# Altium schematic symbol library kmilo17pet-TI_BattMgmt.SchLib: 950 symbols (part 50 of 60)
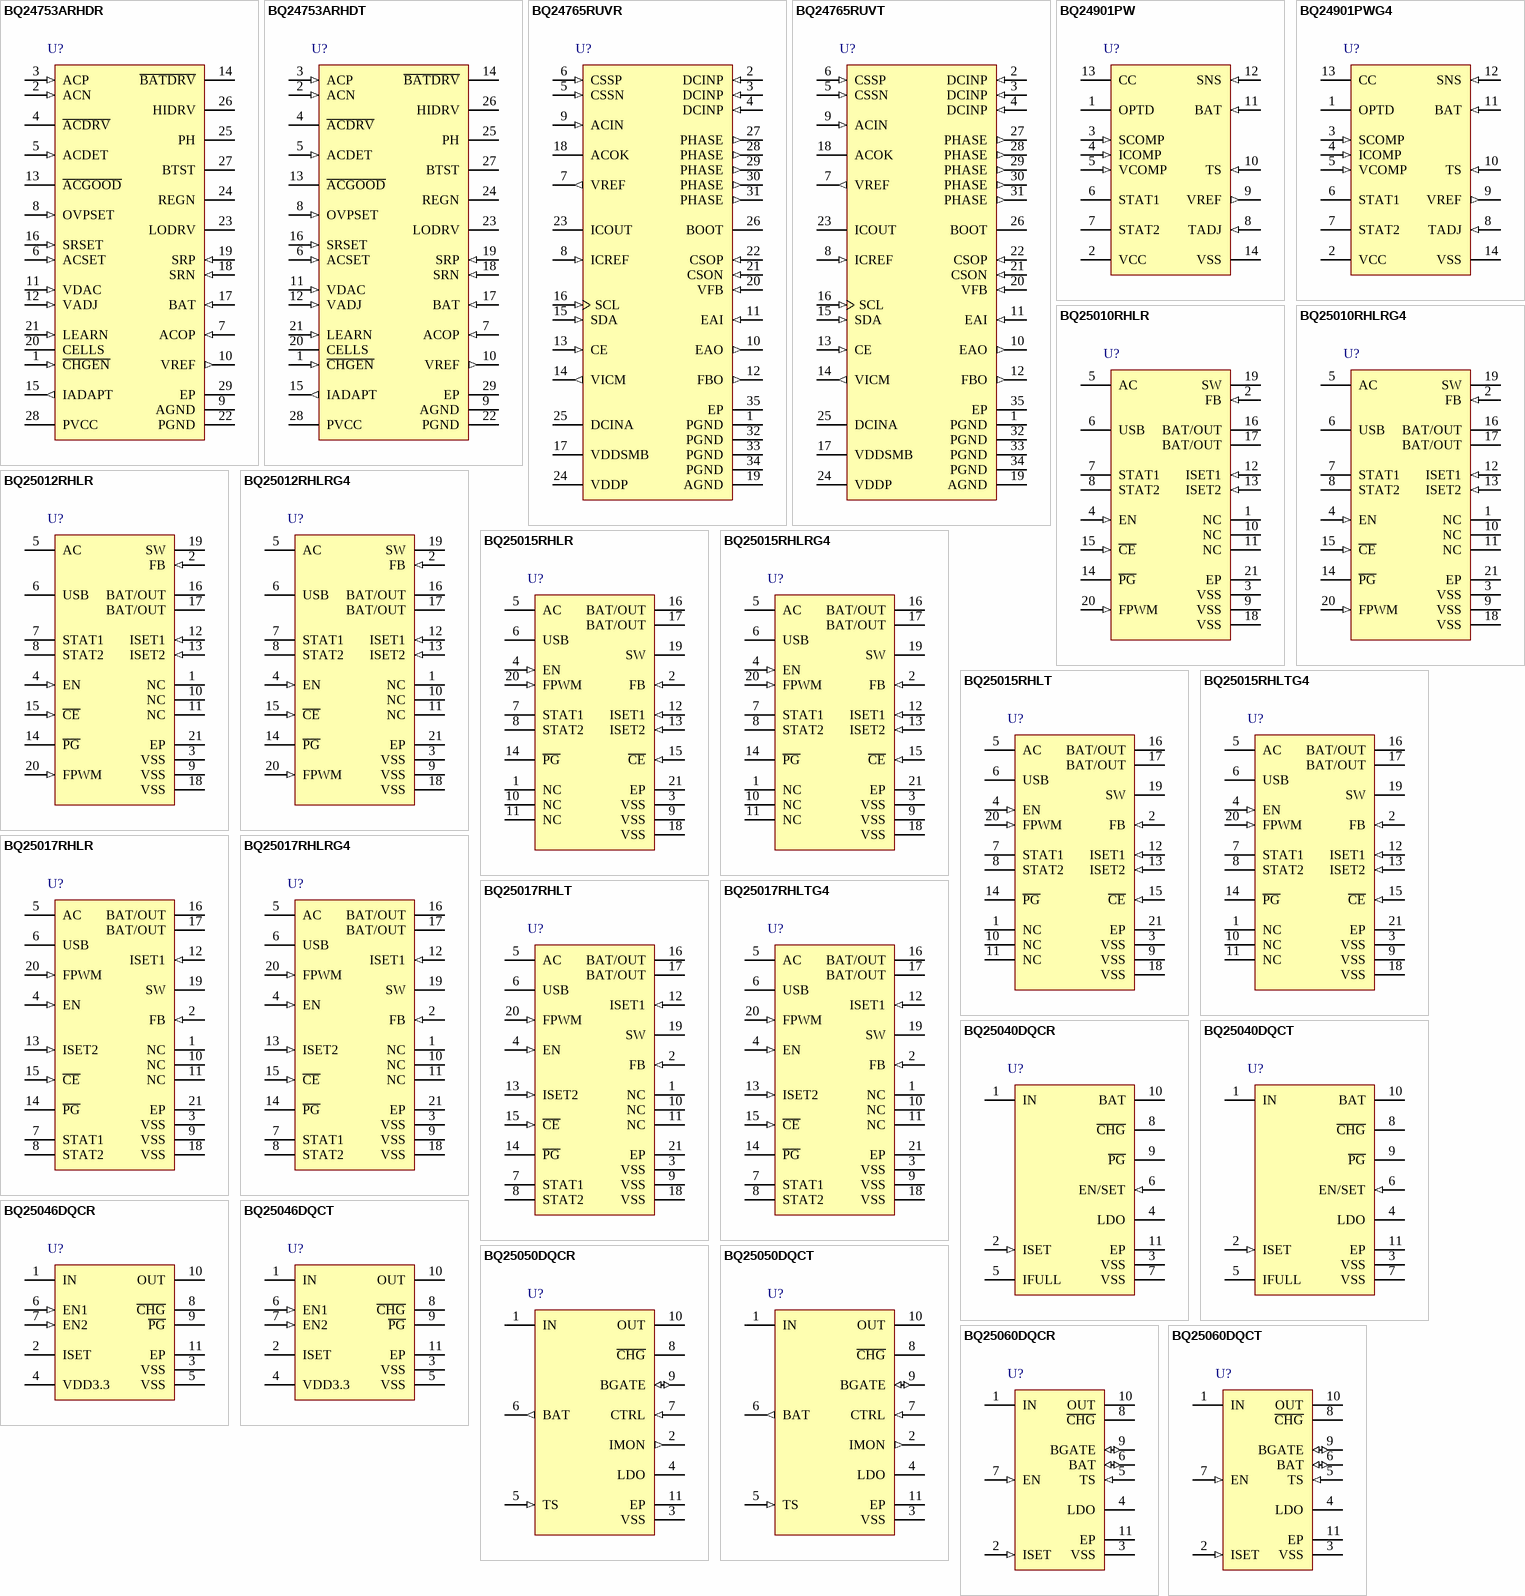
[diagram p83: symbols BQ24753ARHDR to BQ25060DQCT]

## BQ25015RHLT
designator U?
Dual Input Charger with Integrated Synchronous Buck Converter, Output Adjustable, 4.5 V, -40 to 125 degC, 20-pin QFN (RHL), Green (RoHS & no Sb/Br); PartNumber: BQ25015RHLT; Manufacturer: Texas Instruments; Lead Acid: N; Li-Ion: Y; SubFamily: Battery Charge Management; Vin(Min)(V): 4.5; DatasheetVersion: SLUS721A; PackageVersion: revJ, Dec-2011; PackageReference: RHL20-3050X2050TP; PackageDescription: 20-Leads Plastic Quad Flatpack No-Lead, 4.5 x 3.5 x 0.9 mm Body, 0.5 mm Pitch, Exposed Pad; Supplier 1: Digi-Key; Supplier Part Number 1: 296-32034-2-ND; Supplier Part Number 3: 296-32034-6-ND; Eco-Plan: Green (RoHS & no Sb/Br); Li-Polymer: Y; NiCd: N; NiMH: N; Over Voltage Protection: N; Mounting Technology: Surface Mount; ComponentLink1Description: Datasheet; ComponentLink1URL: http://www.ti.com/general/docs/lit/getliterature.tsp?genericPartNumber=BQ25015&fileType=pdf
footprint RHL20-3050X2050TP (QFN, 20-Leads, Body 4.5x3.5mm, Pitch 0.5mm, Thermal Pad 3.05x2.05mm, TI Recommended)
pins: 1 NC "No connect. These pins must be left floating.", 2 FB (in) "Feedback pin for DC-DC converter;connect to voltage divider for bq25015", 3 VSS (power) "Ground Input. Also note that there is an internal electrical connection between the exposed thermal pad and VSS pins of the device. The exposed thermal pad must be connected to the same potential as the Vss pin on the (See Datasheet)", 4 EN (in) "Enable input for DC-DC converter; EN=HIGH for device enable", 5 AC (power) "Charge input voltage from AC adapter, connect 10 uF capacitor to ground", 6 USB (power) "Charge input voltage from USB adapter; connect to 10 uF capacitor to ground", 7 STAT1 (oc) "Charge status output 1 (open-drain)", 8 STAT2 (oc) "Charge status output 2 (open-drain)", 9 VSS (power) "Ground Input. Also note that there is an internal electrical connection between the exposed thermal pad and VSS pins of the device. The exposed thermal pad must be connected to the same potential as the Vss pin on the (See Datasheet)", 10 NC "No connect. These pins must be left floating.", 11 NC "No connect. These pins must be left floating.", 12 ISET1 (in) "Charge current set point for AC input and precharge and taper set point for both AC and USB", 13 ISET2 (in) "Charge current set point for USB port (High = 500 mA, Low = 100 mA, High-Z = disable USB charge)", 14 ~{PG} (oc) "Power good status output (active low, open-drain)", 15 ~{CE} (in) "Charge enable input (active low)", 16 BAT/OUT (power) "Charge current output", 17 BAT/OUT (power) "Battery input to DC-DC converter", 18 VSS (power) "Ground Input. Also note that there is an internal electrical connection between the exposed thermal pad and VSS pins of the device. The exposed thermal pad must be connected to the same potential as the Vss pin on the (See Datasheet)", 19 SW (power) "Phase node of the DC/DC converter; connect series inductor and capacitor to ground", 20 FPWM (in) "PWM control input for the DC-DC converter. A high on FPWM = forced PWM mode. A low = power save mode.", 21 EP (power) "exposed pad"

## BQ25015RHLTG4
designator U?
Dual Input Charger with Integrated Synchronous Buck Converter, Output Adjustable, 4.5 V, -40 to 125 degC, 20-pin QFN (RHL), Green (RoHS & no Sb/Br); PartNumber: BQ25015RHLTG4; Manufacturer: Texas Instruments; Lead Acid: N; Li-Ion: Y; SubFamily: Battery Charge Management; Vin(Min)(V): 4.5; DatasheetVersion: SLUS721A; PackageVersion: revJ, Dec-2011; PackageReference: RHL20-3050X2050TP; PackageDescription: 20-Leads Plastic Quad Flatpack No-Lead, 4.5 x 3.5 x 0.9 mm Body, 0.5 mm Pitch, Exposed Pad; Supplier 1: Digi-Key; Supplier Part Number 1: BQ25015RHLTG4-ND; Supplier Part Number 3: 595-BQ25015RHLTG4; Eco-Plan: Green (RoHS & no Sb/Br); Li-Polymer: Y; NiCd: N; NiMH: N; Over Voltage Protection: N; Mounting Technology: Surface Mount; ComponentLink1Description: Datasheet; ComponentLink1URL: http://www.ti.com/general/docs/lit/getliterature.tsp?genericPartNumber=BQ25015&fileType=pdf
footprint RHL20-3050X2050TP (QFN, 20-Leads, Body 4.5x3.5mm, Pitch 0.5mm, Thermal Pad 3.05x2.05mm, TI Recommended)
pins: 1 NC "No connect. These pins must be left floating.", 2 FB (in) "Feedback pin for DC-DC converter;connect to voltage divider for bq25015", 3 VSS (power) "Ground Input. Also note that there is an internal electrical connection between the exposed thermal pad and VSS pins of the device. The exposed thermal pad must be connected to the same potential as the Vss pin on the (See Datasheet)", 4 EN (in) "Enable input for DC-DC converter; EN=HIGH for device enable", 5 AC (power) "Charge input voltage from AC adapter, connect 10 uF capacitor to ground", 6 USB (power) "Charge input voltage from USB adapter; connect to 10 uF capacitor to ground", 7 STAT1 (oc) "Charge status output 1 (open-drain)", 8 STAT2 (oc) "Charge status output 2 (open-drain)", 9 VSS (power) "Ground Input. Also note that there is an internal electrical connection between the exposed thermal pad and VSS pins of the device. The exposed thermal pad must be connected to the same potential as the Vss pin on the (See Datasheet)", 10 NC "No connect. These pins must be left floating.", 11 NC "No connect. These pins must be left floating.", 12 ISET1 (in) "Charge current set point for AC input and precharge and taper set point for both AC and USB", 13 ISET2 (in) "Charge current set point for USB port (High = 500 mA, Low = 100 mA, High-Z = disable USB charge)", 14 ~{PG} (oc) "Power good status output (active low, open-drain)", 15 ~{CE} (in) "Charge enable input (active low)", 16 BAT/OUT (power) "Charge current output", 17 BAT/OUT (power) "Battery input to DC-DC converter", 18 VSS (power) "Ground Input. Also note that there is an internal electrical connection between the exposed thermal pad and VSS pins of the device. The exposed thermal pad must be connected to the same potential as the Vss pin on the (See Datasheet)", 19 SW (power) "Phase node of the DC/DC converter; connect series inductor and capacitor to ground", 20 FPWM (in) "PWM control input for the DC-DC converter. A high on FPWM = forced PWM mode. A low = power save mode.", 21 EP (power) "exposed pad"

## BQ25017RHLR
designator U?
Dual Input Charger with Integrated Synchronous Buck Converter, Fixed Output 1.8 V, 4.5 V, -40 to 125 degC, 20-pin QFN (RHL), Green (RoHS & no Sb/Br); PartNumber: BQ25017RHLR; Manufacturer: Texas Instruments; Lead Acid: N; Li-Ion: Y; SubFamily: Battery Charge Management; Vin(Min)(V): 4.5; DatasheetVersion: SLUS721A; PackageVersion: revJ, Dec-2011; PackageReference: RHL20-3050X2050TP; PackageDescription: 20-Leads Plastic Quad Flatpack No-Lead, 4.5 x 3.5 x 0.9 mm Body, 0.5 mm Pitch, Exposed Pad; Supplier 1: Digi-Key; Supplier Part Number 1: 296-21697-2-ND; Supplier Part Number 3: 296-21697-6-ND; Eco-Plan: Green (RoHS & no Sb/Br); Li-Polymer: Y; NiCd: N; NiMH: N; Over Voltage Protection: N; Mounting Technology: Surface Mount; ComponentLink1Description: Datasheet; ComponentLink1URL: http://www.ti.com/general/docs/lit/getliterature.tsp?genericPartNumber=BQ25017&fileType=pdf
footprint RHL20-3050X2050TP (QFN, 20-Leads, Body 4.5x3.5mm, Pitch 0.5mm, Thermal Pad 3.05x2.05mm, TI Recommended)
pins: 1 NC "No connect. These pins must be left floating.", 2 FB (in) "Feedback pin for DC-DC converter;connect to system OUT voltage for bq25017", 3 VSS (power) "Ground Input. Also note that there is an internal electrical connection between the exposed thermal pad and VSS pins of the device. The exposed thermal pad must be connected to the same potential as the Vss pin on the (See Datasheet)", 4 EN (in) "Enable input for DC-DC converter; EN=HIGH for device enable", 5 AC (power) "Charge input voltage from AC adapter, connect 10 uF capacitor to ground", 6 USB (power) "Charge input voltage from USB adapter; connect to 10 uF capacitor to ground", 7 STAT1 (oc) "Charge status output 1 (open-drain)", 8 STAT2 (oc) "Charge status output 2 (open-drain)", 9 VSS (power) "Ground Input. Also note that there is an internal electrical connection between the exposed thermal pad and VSS pins of the device. The exposed thermal pad must be connected to the same potential as the Vss pin on the (See Datasheet)", 10 NC "No connect. These pins must be left floating.", 11 NC "No connect. These pins must be left floating.", 12 ISET1 (in) "Charge current set point for AC input and precharge and taper set point for both AC and USB", 13 ISET2 (in) "Charge current set point for USB port (High = 500 mA, Low = 100 mA, High-Z = disable USB charge)", 14 ~{PG} (oc) "Power good status output (active low, open-drain)", 15 ~{CE} (in) "Charge enable input (active low)", 16 BAT/OUT (power) "Charge current output", 17 BAT/OUT (power) "Battery input to DC-DC converter", 18 VSS (power) "Ground Input. Also note that there is an internal electrical connection between the exposed thermal pad and VSS pins of the device. The exposed thermal pad must be connected to the same potential as the Vss pin on the (See Datasheet)", 19 SW (power) "Phase node of the DC/DC converter; connect series inductor and capacitor to ground", 20 FPWM (in) "PWM control input for the DC-DC converter. A high on FPWM = forced PWM mode. A low = power save mode.", 21 EP (power) "exposed pad"

## BQ25017RHLRG4
designator U?
Dual Input Charger with Integrated Synchronous Buck Converter, Fixed Output 1.8 V, 4.5 V, -40 to 125 degC, 20-pin QFN (RHL), Green (RoHS & no Sb/Br); PartNumber: BQ25017RHLRG4; Manufacturer: Texas Instruments; Lead Acid: N; Li-Ion: Y; SubFamily: Battery Charge Management; Vin(Min)(V): 4.5; DatasheetVersion: SLUS721A; PackageVersion: revJ, Dec-2011; PackageReference: RHL20-3050X2050TP; PackageDescription: 20-Leads Plastic Quad Flatpack No-Lead, 4.5 x 3.5 x 0.9 mm Body, 0.5 mm Pitch, Exposed Pad; Supplier 1: Digi-Key; Supplier Part Number 1: BQ25017RHLRG4-ND; Supplier Part Number 3: 595-BQ25017RHLRG4; Eco-Plan: Green (RoHS & no Sb/Br); Li-Polymer: Y; NiCd: N; NiMH: N; Over Voltage Protection: N; Mounting Technology: Surface Mount; ComponentLink1Description: Datasheet; ComponentLink1URL: http://www.ti.com/general/docs/lit/getliterature.tsp?genericPartNumber=BQ25017&fileType=pdf
footprint RHL20-3050X2050TP (QFN, 20-Leads, Body 4.5x3.5mm, Pitch 0.5mm, Thermal Pad 3.05x2.05mm, TI Recommended)
pins: 1 NC "No connect. These pins must be left floating.", 2 FB (in) "Feedback pin for DC-DC converter;connect to system OUT voltage for bq25017", 3 VSS (power) "Ground Input. Also note that there is an internal electrical connection between the exposed thermal pad and VSS pins of the device. The exposed thermal pad must be connected to the same potential as the Vss pin on the (See Datasheet)", 4 EN (in) "Enable input for DC-DC converter; EN=HIGH for device enable", 5 AC (power) "Charge input voltage from AC adapter, connect 10 uF capacitor to ground", 6 USB (power) "Charge input voltage from USB adapter; connect to 10 uF capacitor to ground", 7 STAT1 (oc) "Charge status output 1 (open-drain)", 8 STAT2 (oc) "Charge status output 2 (open-drain)", 9 VSS (power) "Ground Input. Also note that there is an internal electrical connection between the exposed thermal pad and VSS pins of the device. The exposed thermal pad must be connected to the same potential as the Vss pin on the (See Datasheet)", 10 NC "No connect. These pins must be left floating.", 11 NC "No connect. These pins must be left floating.", 12 ISET1 (in) "Charge current set point for AC input and precharge and taper set point for both AC and USB", 13 ISET2 (in) "Charge current set point for USB port (High = 500 mA, Low = 100 mA, High-Z = disable USB charge)", 14 ~{PG} (oc) "Power good status output (active low, open-drain)", 15 ~{CE} (in) "Charge enable input (active low)", 16 BAT/OUT (power) "Charge current output", 17 BAT/OUT (power) "Battery input to DC-DC converter", 18 VSS (power) "Ground Input. Also note that there is an internal electrical connection between the exposed thermal pad and VSS pins of the device. The exposed thermal pad must be connected to the same potential as the Vss pin on the (See Datasheet)", 19 SW (power) "Phase node of the DC/DC converter; connect series inductor and capacitor to ground", 20 FPWM (in) "PWM control input for the DC-DC converter. A high on FPWM = forced PWM mode. A low = power save mode.", 21 EP (power) "exposed pad"

## BQ25017RHLT
designator U?
Dual Input Charger with Integrated Synchronous Buck Converter, Fixed Output 1.8 V, 4.5 V, -40 to 125 degC, 20-pin QFN (RHL), Green (RoHS & no Sb/Br); PartNumber: BQ25017RHLT; Manufacturer: Texas Instruments; Lead Acid: N; Li-Ion: Y; SubFamily: Battery Charge Management; Vin(Min)(V): 4.5; DatasheetVersion: SLUS721A; PackageVersion: revJ, Dec-2011; PackageReference: RHL20-3050X2050TP; PackageDescription: 20-Leads Plastic Quad Flatpack No-Lead, 4.5 x 3.5 x 0.9 mm Body, 0.5 mm Pitch, Exposed Pad; Supplier 1: Digi-Key; Supplier Part Number 1: BQ25017RHLT-ND; Eco-Plan: Green (RoHS & no Sb/Br); Li-Polymer: Y; NiCd: N; NiMH: N; Over Voltage Protection: N; Mounting Technology: Surface Mount; ComponentLink1Description: Datasheet; ComponentLink1URL: http://www.ti.com/general/docs/lit/getliterature.tsp?genericPartNumber=BQ25017&fileType=pdf
footprint RHL20-3050X2050TP (QFN, 20-Leads, Body 4.5x3.5mm, Pitch 0.5mm, Thermal Pad 3.05x2.05mm, TI Recommended)
pins: 1 NC "No connect. These pins must be left floating.", 2 FB (in) "Feedback pin for DC-DC converter;connect to system OUT voltage for bq25017", 3 VSS (power) "Ground Input. Also note that there is an internal electrical connection between the exposed thermal pad and VSS pins of the device. The exposed thermal pad must be connected to the same potential as the Vss pin on the (See Datasheet)", 4 EN (in) "Enable input for DC-DC converter; EN=HIGH for device enable", 5 AC (power) "Charge input voltage from AC adapter, connect 10 uF capacitor to ground", 6 USB (power) "Charge input voltage from USB adapter; connect to 10 uF capacitor to ground", 7 STAT1 (oc) "Charge status output 1 (open-drain)", 8 STAT2 (oc) "Charge status output 2 (open-drain)", 9 VSS (power) "Ground Input. Also note that there is an internal electrical connection between the exposed thermal pad and VSS pins of the device. The exposed thermal pad must be connected to the same potential as the Vss pin on the (See Datasheet)", 10 NC "No connect. These pins must be left floating.", 11 NC "No connect. These pins must be left floating.", 12 ISET1 (in) "Charge current set point for AC input and precharge and taper set point for both AC and USB", 13 ISET2 (in) "Charge current set point for USB port (High = 500 mA, Low = 100 mA, High-Z = disable USB charge)", 14 ~{PG} (oc) "Power good status output (active low, open-drain)", 15 ~{CE} (in) "Charge enable input (active low)", 16 BAT/OUT (power) "Charge current output", 17 BAT/OUT (power) "Battery input to DC-DC converter", 18 VSS (power) "Ground Input. Also note that there is an internal electrical connection between the exposed thermal pad and VSS pins of the device. The exposed thermal pad must be connected to the same potential as the Vss pin on the (See Datasheet)", 19 SW (power) "Phase node of the DC/DC converter; connect series inductor and capacitor to ground", 20 FPWM (in) "PWM control input for the DC-DC converter. A high on FPWM = forced PWM mode. A low = power save mode.", 21 EP (power) "exposed pad"

## BQ25017RHLTG4
designator U?
Dual Input Charger with Integrated Synchronous Buck Converter, Fixed Output 1.8 V, 4.5 V, -40 to 125 degC, 20-pin QFN (RHL), Green (RoHS & no Sb/Br); PartNumber: BQ25017RHLTG4; Manufacturer: Texas Instruments; Lead Acid: N; Li-Ion: Y; SubFamily: Battery Charge Management; Vin(Min)(V): 4.5; DatasheetVersion: SLUS721A; PackageVersion: revJ, Dec-2011; PackageReference: RHL20-3050X2050TP; PackageDescription: 20-Leads Plastic Quad Flatpack No-Lead, 4.5 x 3.5 x 0.9 mm Body, 0.5 mm Pitch, Exposed Pad; Supplier 1: Digi-Key; Supplier Part Number 1: BQ25017RHLTG4-ND; Supplier Part Number 3: 595-BQ25017RHLTG4; Eco-Plan: Green (RoHS & no Sb/Br); Li-Polymer: Y; NiCd: N; NiMH: N; Over Voltage Protection: N; Mounting Technology: Surface Mount; ComponentLink1Description: Datasheet; ComponentLink1URL: http://www.ti.com/general/docs/lit/getliterature.tsp?genericPartNumber=BQ25017&fileType=pdf
footprint RHL20-3050X2050TP (QFN, 20-Leads, Body 4.5x3.5mm, Pitch 0.5mm, Thermal Pad 3.05x2.05mm, TI Recommended)
pins: 1 NC "No connect. These pins must be left floating.", 2 FB (in) "Feedback pin for DC-DC converter;connect to system OUT voltage for bq25017", 3 VSS (power) "Ground Input. Also note that there is an internal electrical connection between the exposed thermal pad and VSS pins of the device. The exposed thermal pad must be connected to the same potential as the Vss pin on the (See Datasheet)", 4 EN (in) "Enable input for DC-DC converter; EN=HIGH for device enable", 5 AC (power) "Charge input voltage from AC adapter, connect 10 uF capacitor to ground", 6 USB (power) "Charge input voltage from USB adapter; connect to 10 uF capacitor to ground", 7 STAT1 (oc) "Charge status output 1 (open-drain)", 8 STAT2 (oc) "Charge status output 2 (open-drain)", 9 VSS (power) "Ground Input. Also note that there is an internal electrical connection between the exposed thermal pad and VSS pins of the device. The exposed thermal pad must be connected to the same potential as the Vss pin on the (See Datasheet)", 10 NC "No connect. These pins must be left floating.", 11 NC "No connect. These pins must be left floating.", 12 ISET1 (in) "Charge current set point for AC input and precharge and taper set point for both AC and USB", 13 ISET2 (in) "Charge current set point for USB port (High = 500 mA, Low = 100 mA, High-Z = disable USB charge)", 14 ~{PG} (oc) "Power good status output (active low, open-drain)", 15 ~{CE} (in) "Charge enable input (active low)", 16 BAT/OUT (power) "Charge current output", 17 BAT/OUT (power) "Battery input to DC-DC converter", 18 VSS (power) "Ground Input. Also note that there is an internal electrical connection between the exposed thermal pad and VSS pins of the device. The exposed thermal pad must be connected to the same potential as the Vss pin on the (See Datasheet)", 19 SW (power) "Phase node of the DC/DC converter; connect series inductor and capacitor to ground", 20 FPWM (in) "PWM control input for the DC-DC converter. A high on FPWM = forced PWM mode. A low = power save mode.", 21 EP (power) "exposed pad"

## BQ25040DQCR
designator U?
1.1 A, Single-Input, Single Cell Li-Ion Battery Charger with 50 mA LDO in 2x3 QFN, 4.5 V, -40 to 125 degC, 10-pin WSON (DQC), Green (RoHS & no Sb/Br); PartNumber: BQ25040DQCR; Manufacturer: Texas Instruments; Lead Acid: N; Li-Ion: Y; SubFamily: Battery Charge Management; Vin(Min)(V): 4.5; DatasheetVersion: SLUS910B; PackageVersion: revA, Jul-2008; PackageReference: DQC10-2400X840TP; PackageDescription: 10-Pin Plastic Small Outline No-Lead, 2 x 3 x 0.8 mm Body, 0.5 mm Pitch, Exposed Pad; Supplier 1: Digi-Key; Supplier Part Number 1: 296-24279-2-ND; Supplier Part Number 3: 296-24279-6-ND; Eco-Plan: Green (RoHS & no Sb/Br); Li-Polymer: N; NiCd: N; NiMH: N; Over Voltage Protection: N; Mounting Technology: Surface Mount; ComponentLink1Description: Datasheet; ComponentLink1URL: http://www.ti.com/general/docs/lit/getliterature.tsp?genericPartNumber=BQ25040&fileType=pdf
footprint DQC10-2400X840TP (SON, 10-Leads, Body 2x3mm, Pitch 0.5mm, Thermal Pad 2.4x0.84mm)
pins: 1 IN (power) "Input power supply. IN is connected to the external dc supply (ac adapter or USB port). Bypass IN to VSS with at least a 1uF ceramic capacitor.", 2 ISET (in) "Current programming input. Connect a resistor from ISET to VSS to program the fast-charge current when the user programmable mode is selected by EN/SET. If the current limit set by ISET is lower than the USB500 limit, the (See Datasheet)", 3 VSS (power) "Ground terminal. Connect to the thermal pad and the ground plane of the circuit.", 4 LDO (power) "LDO output. LDO is regulated to 4.9V and drives up to 50mA. Bypass LDO to VSS with at least a 1uF ceramic capacitor. LDO is enabled when VIN is above the UVLO and less than VOVP. The LDO current is not limited by the input (See Datasheet)", 5 IFULL "Charge done current programming input. Connect a resistor from IFULL to VSS to program the charge done threshold. The C\H\G\ output goes high-impedance when IBAT falls to the charge done threshold. The  charge done threshold (See Datasheet)", 6 EN/SET (in) "One-wire Interface Input. Drive EN/SET with pulses to enable/disable the device and select different modes. See Table 1 for the data map. EN/SET is pulled to VSS with an internal ~260 k ohm  resistor.", 7 VSS (power) "Ground terminal. Connect to the thermal pad and the ground plane of the circuit.", 8 ~{CHG} (hiz) "Charge done indicator open-drain output. C\H\G\ is pulled low while the device is charging the battery. C\H\G\  goes high impedance when the battery is fully charged and does not indicate subsequent recharge cycles. C\H\G\ (See Datasheet)", 9 ~{PG} (hiz) "Power good open-drain output. P\G\ is an open-drain output that pulls to VSS when the input power is  above the battery voltage by 80mV and below the OVP threshold. P\G\ is high impedance when outside this range.", 10 BAT (power) "Battery connection output. Connect the battery and the system input to BAT. Bypass BAT to VSS with at least a 1uF ceramic capacitor. If no battery is installed, the capacitance on the BAT line must be at least 40uF. In (See Datasheet)", 11 EP (power) "There is an internal electrical connection between the exposed thermal pad and the VSS pin of the  device. The thermal pad must be connected to the same potential as the VSS pin on the printed circuit board. Do not use the (See Datasheet)"

## BQ25040DQCT
designator U?
1.1 A, Single-Input, Single Cell Li-Ion Battery Charger with 50 mA LDO in 2x3 QFN, 4.5 V, -40 to 125 degC, 10-pin WSON (DQC), Green (RoHS & no Sb/Br); PartNumber: BQ25040DQCT; Manufacturer: Texas Instruments; Lead Acid: N; Li-Ion: Y; SubFamily: Battery Charge Management; Vin(Min)(V): 4.5; DatasheetVersion: SLUS910B; PackageVersion: revA, Jul-2008; PackageReference: DQC10-2400X840TP; PackageDescription: 10-Pin Plastic Small Outline No-Lead, 2 x 3 x 0.8 mm Body, 0.5 mm Pitch, Exposed Pad; Supplier 1: Digi-Key; Supplier Part Number 1: 296-32035-2-ND; Supplier Part Number 3: 296-32035-6-ND; Eco-Plan: Green (RoHS & no Sb/Br); Li-Polymer: N; NiCd: N; NiMH: N; Over Voltage Protection: N; Mounting Technology: Surface Mount; ComponentLink1Description: Datasheet; ComponentLink1URL: http://www.ti.com/general/docs/lit/getliterature.tsp?genericPartNumber=BQ25040&fileType=pdf
footprint DQC10-2400X840TP (SON, 10-Leads, Body 2x3mm, Pitch 0.5mm, Thermal Pad 2.4x0.84mm)
pins: 1 IN (power) "Input power supply. IN is connected to the external dc supply (ac adapter or USB port). Bypass IN to VSS with at least a 1uF ceramic capacitor.", 2 ISET (in) "Current programming input. Connect a resistor from ISET to VSS to program the fast-charge current when the user programmable mode is selected by EN/SET. If the current limit set by ISET is lower than the USB500 limit, the (See Datasheet)", 3 VSS (power) "Ground terminal. Connect to the thermal pad and the ground plane of the circuit.", 4 LDO (power) "LDO output. LDO is regulated to 4.9V and drives up to 50mA. Bypass LDO to VSS with at least a 1uF ceramic capacitor. LDO is enabled when VIN is above the UVLO and less than VOVP. The LDO current is not limited by the input (See Datasheet)", 5 IFULL "Charge done current programming input. Connect a resistor from IFULL to VSS to program the charge done threshold. The C\H\G\ output goes high-impedance when IBAT falls to the charge done threshold. The  charge done threshold (See Datasheet)", 6 EN/SET (in) "One-wire Interface Input. Drive EN/SET with pulses to enable/disable the device and select different modes. See Table 1 for the data map. EN/SET is pulled to VSS with an internal ~260 k ohm  resistor.", 7 VSS (power) "Ground terminal. Connect to the thermal pad and the ground plane of the circuit.", 8 ~{CHG} (hiz) "Charge done indicator open-drain output. C\H\G\ is pulled low while the device is charging the battery. C\H\G\  goes high impedance when the battery is fully charged and does not indicate subsequent recharge cycles. C\H\G\ (See Datasheet)", 9 ~{PG} (hiz) "Power good open-drain output. P\G\ is an open-drain output that pulls to VSS when the input power is  above the battery voltage by 80mV and below the OVP threshold. P\G\ is high impedance when outside this range.", 10 BAT (power) "Battery connection output. Connect the battery and the system input to BAT. Bypass BAT to VSS with at least a 1uF ceramic capacitor. If no battery is installed, the capacitance on the BAT line must be at least 40uF. In (See Datasheet)", 11 EP (power) "There is an internal electrical connection between the exposed thermal pad and the VSS pin of the  device. The thermal pad must be connected to the same potential as the VSS pin on the printed circuit board. Do not use the (See Datasheet)"

## BQ25046DQCR
designator U?
Generation 1 1.1 A, Single-Input 5 V Power Supply IC for Contactless Charging Applications, -40 to 85 degC, 10-pin WSON (DQC), Green (RoHS & no Sb/Br); PartNumber: BQ25046DQCR; Manufacturer: Texas Instruments; Lead Acid: N; SubFamily: Battery Charge Management; DatasheetVersion: SLUSA83; PackageVersion: revA, Jul-2008; PackageReference: DQC10-2400X840TP; PackageDescription: 10-Pin Plastic Small Outline No-Lead, 2 x 3 x 0.8 mm Body, 0.5 mm Pitch, Exposed Pad; Supplier 1: Digi-Key; Supplier Part Number 1: BQ25046DQCR-ND; Supplier Part Number 3: 595-BQ25046DQCR; Eco-Plan: Green (RoHS & no Sb/Br); Li-Ion: N; Li-Polymer: N; NiCd: N; NiMH: N; Over Voltage Protection: N; Mounting Technology: Surface Mount; ComponentLink1Description: Datasheet; ComponentLink1URL: http://www.ti.com/general/docs/lit/getliterature.tsp?genericPartNumber=BQ25046&fileType=pdf
footprint DQC10-2400X840TP (SON, 10-Leads, Body 2x3mm, Pitch 0.5mm, Thermal Pad 2.4x0.84mm)
pins: 1 IN (power) "Input power supply. IN is connected to the external DC supply (AC adapter or USB port) or wireless rectifier. Bypass IN to VSS with at least a 1uF ceramic capacitor for wired applications and 10 uF typical for wireless power (See Datasheet)", 2 ISET "Current programming input. Connect a resistor from ISET to VSS to program the current limit when the user programmable mode is selected by EN1 and EN2. The resistor range is between 470ohm and 5360ohm to set the current (See Datasheet)", 3 VSS (power) "Ground terminal. Connect to the thermal pad and the ground plane of the circuit.", 4 VDD3.3 (power) "3.3V output. VDD3.3 is regulated to 3.3V and drives up to 15mA. Bypass VDD3.3 to VSS with at least a 0.1uF ceramic capacitor. VDD3.3 is enabled when VIN is above the UVLO voltage.", 5 VSS (power) "Ground terminal. Connect to the thermal pad and the ground plane of the circuit.", 6 EN1 (in) "Current Limit Selection inputs. EN1 and EN2 are used to select the current limit and enable/disable the device. See Table 1 for current limit settings.", 7 EN2 (in) "Current Limit Selection inputs. EN1 and EN2 are used to select the current limit and enable/disable the device. See Table 1 for current limit settings.", 8 ~{CHG} (hiz) "IC Enabled output. C\H\G\ is pulled to VSS when the bq25046 is enabled. C\H\G\ is high impedance when the IC is disabled.", 9 ~{PG} (hiz) "Power good output. P\G\ is an open-drain output that pulls to VSS when the input power is above the UVLO and below the OVP threshold. P\G\ is high impedance when outside this range.", 10 OUT (power) "5V LDO output. Connect OUT to the system input. OUT regulates to 5.0V. Bypass OUT to VSS with at least a 1uF ceramic capacitor.", 11 EP (power) "There is an internal electrical connection between the exposed thermal pad and the VSS pin of the device. The thermal pad must be connected to the same potential as the VSS pin on the printed circuit board. Do not use the (See Datasheet)"

## BQ25046DQCT
designator U?
Generation 1 1.1 A, Single-Input 5 V Power Supply IC for Contactless Charging Applications, -40 to 85 degC, 10-pin WSON (DQC), Green (RoHS & no Sb/Br); PartNumber: BQ25046DQCT; Manufacturer: Texas Instruments; Lead Acid: N; SubFamily: Battery Charge Management; DatasheetVersion: SLUSA83; PackageVersion: revA, Jul-2008; PackageReference: DQC10-2400X840TP; PackageDescription: 10-Pin Plastic Small Outline No-Lead, 2 x 3 x 0.8 mm Body, 0.5 mm Pitch, Exposed Pad; Supplier 1: Digi-Key; Supplier Part Number 1: 296-28069-2-ND; Supplier Part Number 3: 296-28069-6-ND; Eco-Plan: Green (RoHS & no Sb/Br); Li-Ion: N; Li-Polymer: N; NiCd: N; NiMH: N; Over Voltage Protection: N; Mounting Technology: Surface Mount; ComponentLink1Description: Datasheet; ComponentLink1URL: http://www.ti.com/general/docs/lit/getliterature.tsp?genericPartNumber=BQ25046&fileType=pdf
footprint DQC10-2400X840TP (SON, 10-Leads, Body 2x3mm, Pitch 0.5mm, Thermal Pad 2.4x0.84mm)
pins: 1 IN (power) "Input power supply. IN is connected to the external DC supply (AC adapter or USB port) or wireless rectifier. Bypass IN to VSS with at least a 1uF ceramic capacitor for wired applications and 10 uF typical for wireless power (See Datasheet)", 2 ISET "Current programming input. Connect a resistor from ISET to VSS to program the current limit when the user programmable mode is selected by EN1 and EN2. The resistor range is between 470ohm and 5360ohm to set the current (See Datasheet)", 3 VSS (power) "Ground terminal. Connect to the thermal pad and the ground plane of the circuit.", 4 VDD3.3 (power) "3.3V output. VDD3.3 is regulated to 3.3V and drives up to 15mA. Bypass VDD3.3 to VSS with at least a 0.1uF ceramic capacitor. VDD3.3 is enabled when VIN is above the UVLO voltage.", 5 VSS (power) "Ground terminal. Connect to the thermal pad and the ground plane of the circuit.", 6 EN1 (in) "Current Limit Selection inputs. EN1 and EN2 are used to select the current limit and enable/disable the device. See Table 1 for current limit settings.", 7 EN2 (in) "Current Limit Selection inputs. EN1 and EN2 are used to select the current limit and enable/disable the device. See Table 1 for current limit settings.", 8 ~{CHG} (hiz) "IC Enabled output. C\H\G\ is pulled to VSS when the bq25046 is enabled. C\H\G\ is high impedance when the IC is disabled.", 9 ~{PG} (hiz) "Power good output. P\G\ is an open-drain output that pulls to VSS when the input power is above the UVLO and below the OVP threshold. P\G\ is high impedance when outside this range.", 10 OUT (power) "5V LDO output. Connect OUT to the system input. OUT regulates to 5.0V. Bypass OUT to VSS with at least a 1uF ceramic capacitor.", 11 EP (power) "There is an internal electrical connection between the exposed thermal pad and the VSS pin of the device. The thermal pad must be connected to the same potential as the VSS pin on the printed circuit board. Do not use the (See Datasheet)"

## BQ25050DQCR
designator U?
1 A, Single-Input, Single Cell Li-Ion Battery Charger with 50 mA LDO, -40 to 85 degC, 10-pin WSON (DQC), Green (RoHS & no Sb/Br); PartNumber: BQ25050DQCR; Manufacturer: Texas Instruments; Lead Acid: N; SubFamily: Battery Charge Management; DatasheetVersion: SLUSA33; PackageVersion: revA, Jul-2008; PackageReference: DQC10-2400X840TP; PackageDescription: 10-Pin Plastic Small Outline No-Lead, 2 x 3 x 0.8 mm Body, 0.5 mm Pitch, Exposed Pad; Supplier 1: Digi-Key; Supplier Part Number 1: 296-29243-2-ND; Supplier Part Number 3: 296-29243-6-ND; Eco-Plan: Green (RoHS & no Sb/Br); Li-Ion: N; Li-Polymer: N; NiCd: N; NiMH: N; Over Voltage Protection: N; Mounting Technology: Surface Mount; ComponentLink1Description: Datasheet; ComponentLink1URL: http://www.ti.com/general/docs/lit/getliterature.tsp?genericPartNumber=BQ25050&fileType=pdf
footprint DQC10-2400X840TP (SON, 10-Leads, Body 2x3mm, Pitch 0.5mm, Thermal Pad 2.4x0.84mm)
pins: 1 IN (power) "Input power supply. IN is connected to the external DC supply (AC adapter or USB port). Bypass IN to VSS with at least a 0.1uF ceramic capacitor.", 2 IMON (out) "Current monitoring output. Connect a 1kO resistor from IMON to VSS to monitor the input current. The voltage at IMON ranges from 0V to 1V which corresponds to an input current from 0A to 1A.", 3 VSS (power) "Ground terminal. Connect to the thermal pad and the ground plane of the circuit.", 4 LDO (power) "LDO output. LDO is regulated to 4.9V and drives up to 50mA. Bypass LDO to VSS with a 0.1uF ceramic capacitor. LDO is enabled when VUVLO < VIN < VOVP.", 5 TS (in) "Battery pack NTC monitoring input. Connect the battery pack 47-kO NTC from TS to VSS to monitor battery pack temperature. The default pack temperature range is 0degreesC to 45degreesC thresholds.", 6 BAT (out) "Battery connection output. BAT is the sense input for the battery as well as the precharge current output. Connect BAT to the battery and bypass BAT to VSS with a 0.1uF ceramic capacitor.", 7 CTRL (in) "Single-input interface Input. Drive CTRL with pulses to enable/disable the device, enable/disable VIN-DPM, select battery temperature range and select current limits. See the interface section for details on using the CTRL (See Datasheet)", 8 ~{CHG} (hiz) "Charge status indicator open-drain output. C\H\G\ is pulled low while the device is charging the battery. C\H\G\ goes high impedance when the battery is fully charged and does not indicate subsequent recharge cycles. C\H\G\ (See Datasheet)", 9 BGATE (io) "Battery P-Channel FET gate drive output. Connect BGATE to the gate of the external P-Channel FET that connects the battery to OUT. Connect BGATE to VSS if the external FET is not used. No external capacitor is recommended (See Datasheet)", 10 OUT (power) "System output connection. OUT supplies the system with a minimum voltage of 3.4V (min.) to ensure system operation whenever an input adapter is connected regardless of the battery voltage. Bypass OUT to VSS with a 1uF (See Datasheet)", 11 EP (power) "There is an internal electrical connection between the exposed thermal pad and the VSS pin of the device. The thermal pad must be connected to the same potential as the VSS pin on the printed circuit board. Do not use the (See Datasheet)"

## BQ25050DQCT
designator U?
1 A, Single-Input, Single Cell Li-Ion Battery Charger with 50 mA LDO, -40 to 85 degC, 10-pin WSON (DQC), Green (RoHS & no Sb/Br); PartNumber: BQ25050DQCT; Manufacturer: Texas Instruments; Lead Acid: N; SubFamily: Battery Charge Management; DatasheetVersion: SLUSA33; PackageVersion: revA, Jul-2008; PackageReference: DQC10-2400X840TP; PackageDescription: 10-Pin Plastic Small Outline No-Lead, 2 x 3 x 0.8 mm Body, 0.5 mm Pitch, Exposed Pad; Supplier 1: Digi-Key; Supplier Part Number 1: BQ25050DQCT-ND; Supplier Part Number 3: 595-BQ25050DQCT; Eco-Plan: Green (RoHS & no Sb/Br); Li-Ion: N; Li-Polymer: N; NiCd: N; NiMH: N; Over Voltage Protection: N; Vin(Min)(V): N; Mounting Technology: Surface Mount; ComponentLink1Description: Datasheet; ComponentLink1URL: http://www.ti.com/general/docs/lit/getliterature.tsp?genericPartNumber=BQ25050&fileType=pdf
footprint DQC10-2400X840TP (SON, 10-Leads, Body 2x3mm, Pitch 0.5mm, Thermal Pad 2.4x0.84mm)
pins: 1 IN (power) "Input power supply. IN is connected to the external DC supply (AC adapter or USB port). Bypass IN to VSS with at least a 0.1uF ceramic capacitor.", 2 IMON (out) "Current monitoring output. Connect a 1kO resistor from IMON to VSS to monitor the input current. The voltage at IMON ranges from 0V to 1V which corresponds to an input current from 0A to 1A.", 3 VSS (power) "Ground terminal. Connect to the thermal pad and the ground plane of the circuit.", 4 LDO (power) "LDO output. LDO is regulated to 4.9V and drives up to 50mA. Bypass LDO to VSS with a 0.1uF ceramic capacitor. LDO is enabled when VUVLO < VIN < VOVP.", 5 TS (in) "Battery pack NTC monitoring input. Connect the battery pack 47-kO NTC from TS to VSS to monitor battery pack temperature. The default pack temperature range is 0degreesC to 45degreesC thresholds.", 6 BAT (out) "Battery connection output. BAT is the sense input for the battery as well as the precharge current output. Connect BAT to the battery and bypass BAT to VSS with a 0.1uF ceramic capacitor.", 7 CTRL (in) "Single-input interface Input. Drive CTRL with pulses to enable/disable the device, enable/disable VIN-DPM, select battery temperature range and select current limits. See the interface section for details on using the CTRL (See Datasheet)", 8 ~{CHG} (hiz) "Charge status indicator open-drain output. C\H\G\ is pulled low while the device is charging the battery. C\H\G\ goes high impedance when the battery is fully charged and does not indicate subsequent recharge cycles. C\H\G\ (See Datasheet)", 9 BGATE (io) "Battery P-Channel FET gate drive output. Connect BGATE to the gate of the external P-Channel FET that connects the battery to OUT. Connect BGATE to VSS if the external FET is not used. No external capacitor is recommended (See Datasheet)", 10 OUT (power) "System output connection. OUT supplies the system with a minimum voltage of 3.4V (min.) to ensure system operation whenever an input adapter is connected regardless of the battery voltage. Bypass OUT to VSS with a 1uF (See Datasheet)", 11 EP (power) "There is an internal electrical connection between the exposed thermal pad and the VSS pin of the device. The thermal pad must be connected to the same potential as the VSS pin on the printed circuit board. Do not use the (See Datasheet)"

## BQ25060DQCR
designator U?
1 A, Single-Input, Single Cell Li-Ion Battery Charger with 50 mA LDO, -40 to 85 degC, 10-pin WSON (DQC), Green (RoHS & no Sb/Br); PartNumber: BQ25060DQCR; Manufacturer: Texas Instruments; Lead Acid: N; SubFamily: Battery Charge Management; DatasheetVersion: SLUSA32; PackageVersion: revA, Jul-2008; PackageReference: DQC10-2400X840TP; PackageDescription: 10-Pin Plastic Small Outline No-Lead, 2 x 3 x 0.8 mm Body, 0.5 mm Pitch, Exposed Pad; Supplier 1: Digi-Key; Supplier Part Number 1: 296-27486-2-ND; Supplier Part Number 3: 296-27486-6-ND; Eco-Plan: Green (RoHS & no Sb/Br); Li-Ion: N; Li-Polymer: N; NiCd: N; NiMH: N; Over Voltage Protection: N; Mounting Technology: Surface Mount; ComponentLink1Description: Datasheet; ComponentLink1URL: http://www.ti.com/general/docs/lit/getliterature.tsp?genericPartNumber=BQ25060&fileType=pdf
footprint DQC10-2400X840TP (SON, 10-Leads, Body 2x3mm, Pitch 0.5mm, Thermal Pad 2.4x0.84mm)
pins: 1 IN (power) "nput power supply. IN is connected to the external DC supply (AC adapter or USB port). Bypass IN to VSS with at least a 0.1uF ceramic capacitor.", 2 ISET (in) "Current programming input. Connect a resistor from ISET to VSS to program the input current limit when the user proagammable mode is selected by the EN pin. The resistor range is between 1kohm and 10kohm to set the current (See Datasheet)", 3 VSS (power) "Ground terminal. Connect to the thermal pad and the ground plane of the circuit.", 4 LDO (power) "LDO output. LDO is regulated to 4.9V and drives up to 50mA. Bypass LDO to VSS with a 0.1uF ceramic capacitor. LDO is enabled when VUVLO < VIN < VOVP.", 5 TS (in) "Battery pack NTC monitoring input. Connect the battery pack NTC from TS to VSS to monitor battery pack temperature. The default pack temperature range is 0 degC to 45 degC thresholds.", 6 BAT (io) "Battery connection output. BAT is the sense input for the battery as well as the precharge current output. Connect BAT to the battery and bypass BAT to VSS with a 0.1uF ceramic capacitor.", 7 EN (in) "Enable input. Drive EN high to disable the IC. Connect EN to VSS to place the bq25060 in the user pgrammable mode where the input current is programmed using the ISET input. Leave EN flaoting to place the bq25060 in USB500 (See Datasheet)", 8 ~{CHG} (hiz) "Charge status indicator open-drain output. C\H\G\ is pulled low while the device is charging the battery. C\H\G\ goes high impedance when the battery is fully charged and does not indicate subsequent recharge cycles.", 9 BGATE (io) "Battery P-Channel FET gate drive output. Connect BGATE to the gate of the external P-Channel FET that connects the battery to OUT. Connect BGATE to VSS if the external FET is not used. No external capacitor is recommended (See Datasheet)", 10 OUT (power) "System output connection. OUT supplies the system with a minimum voltage of 3.4V (min.) to ensure system operation whenever an input adapter is connected regardless of the battery voltage. Bypass OUT to VSS with a minimum (See Datasheet)", 11 EP (power) "There is an internal electrical connection between the exposed thermal pad and the VSS pin of the device. The thermal pad must be connected to the same potential as the VSS pin on the printed circuit board. Do not use the (See Datasheet)"

## BQ25060DQCT
designator U?
1 A, Single-Input, Single Cell Li-Ion Battery Charger with 50 mA LDO, -40 to 85 degC, 10-pin WSON (DQC), Green (RoHS & no Sb/Br); PartNumber: BQ25060DQCT; Manufacturer: Texas Instruments; Lead Acid: N; SubFamily: Battery Charge Management; DatasheetVersion: SLUSA32; PackageVersion: revA, Jul-2008; PackageReference: DQC10-2400X840TP; PackageDescription: 10-Pin Plastic Small Outline No-Lead, 2 x 3 x 0.8 mm Body, 0.5 mm Pitch, Exposed Pad; Supplier 1: Digi-Key; Supplier Part Number 1: BQ25060DQCT-ND; Supplier Part Number 3: 595-BQ25060DQCT; Eco-Plan: Green (RoHS & no Sb/Br); Li-Ion: N; Li-Polymer: N; NiCd: N; NiMH: N; Over Voltage Protection: N; Mounting Technology: Surface Mount; ComponentLink1Description: Datasheet; ComponentLink1URL: http://www.ti.com/general/docs/lit/getliterature.tsp?genericPartNumber=BQ25060&fileType=pdf
footprint DQC10-2400X840TP (SON, 10-Leads, Body 2x3mm, Pitch 0.5mm, Thermal Pad 2.4x0.84mm)
pins: 1 IN (power) "nput power supply. IN is connected to the external DC supply (AC adapter or USB port). Bypass IN to VSS with at least a 0.1uF ceramic capacitor.", 2 ISET (in) "Current programming input. Connect a resistor from ISET to VSS to program the input current limit when the user proagammable mode is selected by the EN pin. The resistor range is between 1kohm and 10kohm to set the current (See Datasheet)", 3 VSS (power) "Ground terminal. Connect to the thermal pad and the ground plane of the circuit.", 4 LDO (power) "LDO output. LDO is regulated to 4.9V and drives up to 50mA. Bypass LDO to VSS with a 0.1uF ceramic capacitor. LDO is enabled when VUVLO < VIN < VOVP.", 5 TS (in) "Battery pack NTC monitoring input. Connect the battery pack NTC from TS to VSS to monitor battery pack temperature. The default pack temperature range is 0 degC to 45 degC thresholds.", 6 BAT (io) "Battery connection output. BAT is the sense input for the battery as well as the precharge current output. Connect BAT to the battery and bypass BAT to VSS with a 0.1uF ceramic capacitor.", 7 EN (in) "Enable input. Drive EN high to disable the IC. Connect EN to VSS to place the bq25060 in the user pgrammable mode where the input current is programmed using the ISET input. Leave EN flaoting to place the bq25060 in USB500 (See Datasheet)", 8 ~{CHG} (hiz) "Charge status indicator open-drain output. C\H\G\ is pulled low while the device is charging the battery. C\H\G\ goes high impedance when the battery is fully charged and does not indicate subsequent recharge cycles.", 9 BGATE (io) "Battery P-Channel FET gate drive output. Connect BGATE to the gate of the external P-Channel FET that connects the battery to OUT. Connect BGATE to VSS if the external FET is not used. No external capacitor is recommended (See Datasheet)", 10 OUT (power) "System output connection. OUT supplies the system with a minimum voltage of 3.4V (min.) to ensure system operation whenever an input adapter is connected regardless of the battery voltage. Bypass OUT to VSS with a minimum (See Datasheet)", 11 EP (power) "There is an internal electrical connection between the exposed thermal pad and the VSS pin of the device. The thermal pad must be connected to the same potential as the VSS pin on the printed circuit board. Do not use the (See Datasheet)"

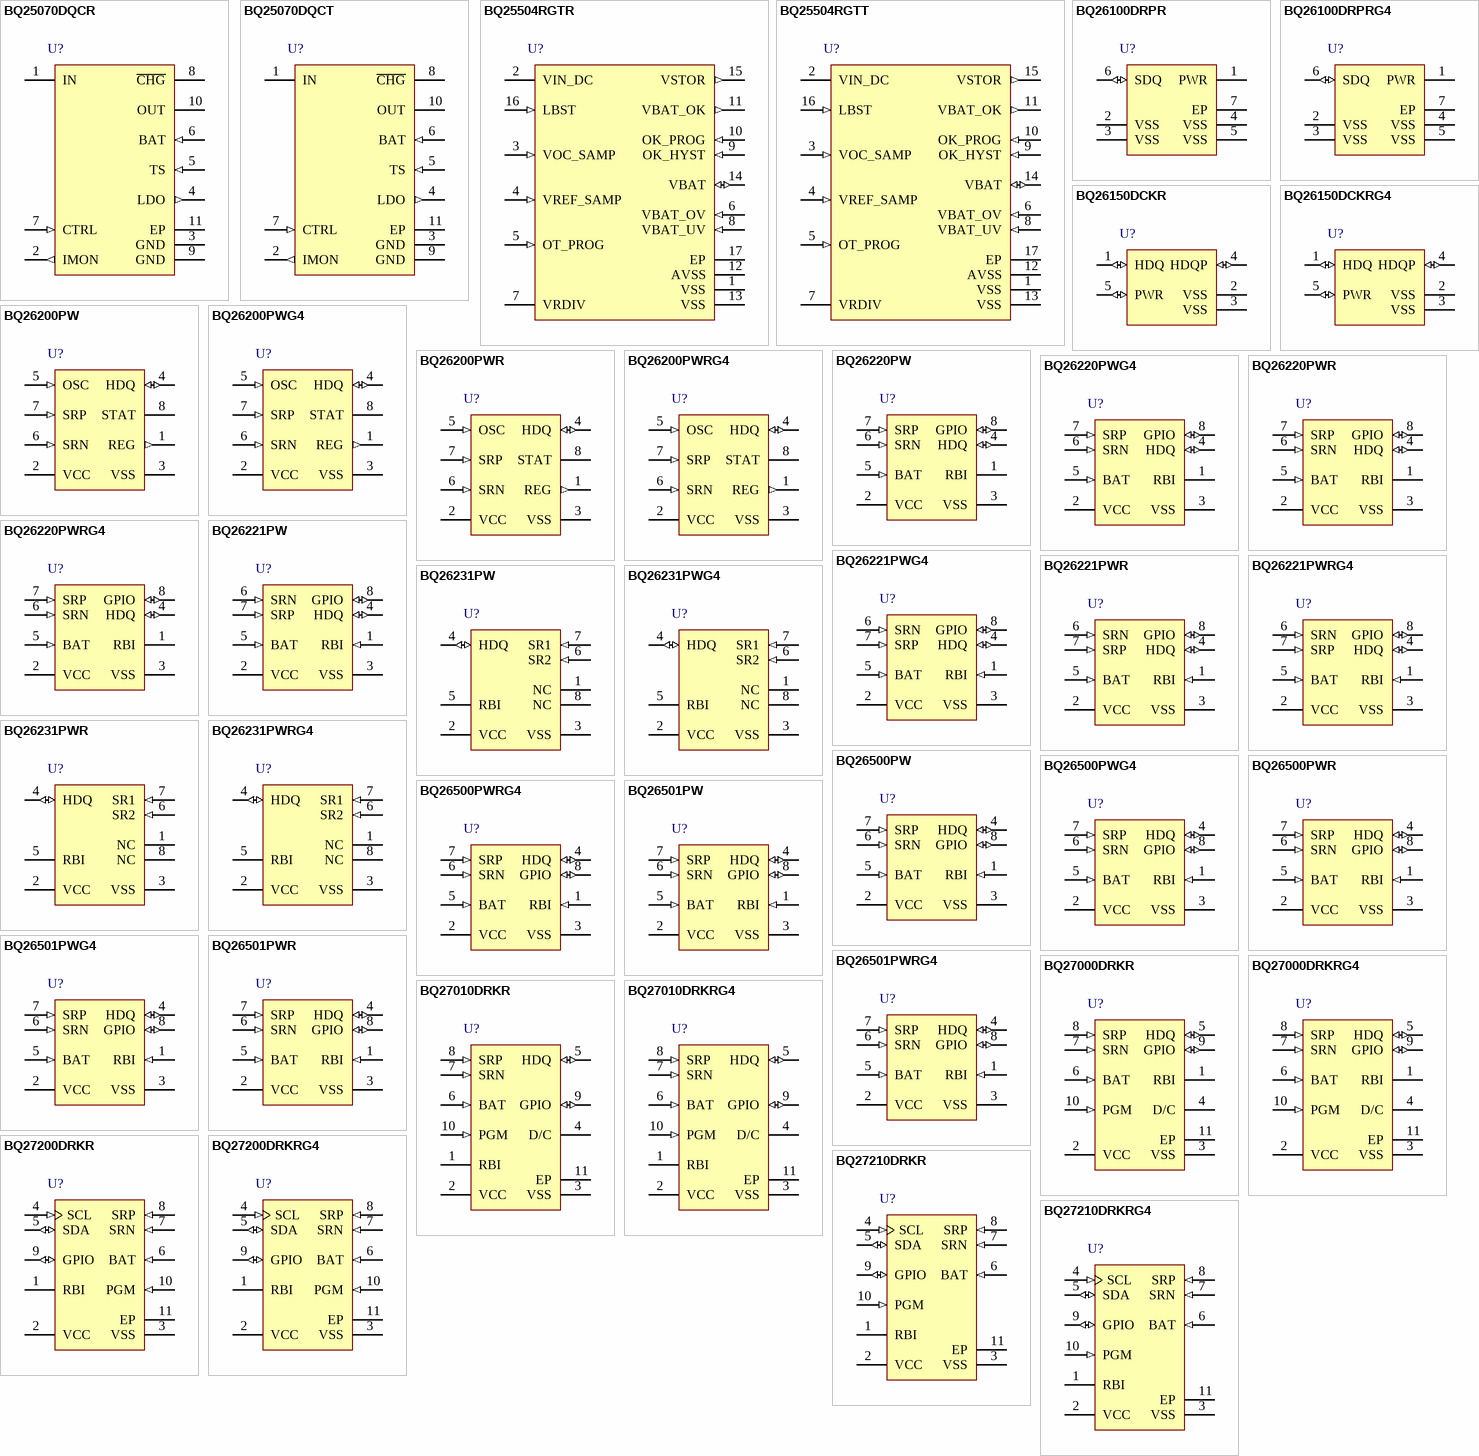
[diagram p28: symbols BQ25070DQCR to BQ27210DRKRG4]

## BQ25070DQCR
designator U?
1 A, Single Cell, Linear Charger for LiFePO4 Applications, -40 to 85 degC, 10-pin WSON (DQC), Green (RoHS & no Sb/Br); PartNumber: BQ25070DQCR; Manufacturer: Texas Instruments; Lead Acid: N; SubFamily: Battery Charge Management; DatasheetVersion: SLUSA66; PackageVersion: revA, Jul-2008; PackageReference: DQC10-2400X840TP; PackageDescription: 10-Pin Plastic Small Outline No-Lead, 2 x 3 x 0.8 mm Body, 0.5 mm Pitch, Exposed Pad; Supplier 1: Digi-Key; Supplier Part Number 1: BQ25070DQCR-ND; Supplier Part Number 3: 595-BQ25070DQCR; Eco-Plan: Green (RoHS & no Sb/Br); Li-Ion: N; Li-Polymer: N; NiCd: N; NiMH: N; Over Voltage Protection: N; Mounting Technology: Surface Mount; ComponentLink1Description: Datasheet; ComponentLink1URL: http://www.ti.com/general/docs/lit/getliterature.tsp?genericPartNumber=BQ25070&fileType=pdf
footprint DQC10-2400X840TP (SON, 10-Leads, Body 2x3mm, Pitch 0.5mm, Thermal Pad 2.4x0.84mm)
pins: 1 IN (power) "Input power supply. IN is connected to the external DC supply (AC adapter or USB port). Bypass IN to GND with at least a 0.1uF ceramic capacitor.", 2 IMON (out) "Current monitoring output. Connect a 1kO resistor from IMON to GND to monitor the input current. The voltage at IMON ranges from 0V to 1V which corresponds to an input current from 0A to 1A.", 3 GND (power) "Ground terminal. Connect to the thermal pad and the ground plane of the circuit.", 4 LDO (out) "LDO output. LDO is regulated to 4.9V and drives up to 50mA. Bypass LDO to GND with a 0.1uF ceramic capacitor. LDO is enabled when VUVLO < VIN < VOVP.", 5 TS (in) "Battery pack NTC monitoring input. Connect a resistor divider from LDO to GND with TS connected to the center tap to set the charge temperature window. The battery pack NTC is connected in parallel with the bottom resistor (See Datasheet)", 6 BAT (in) "Battery connection output. BAT is the sense input for the battery. Connect BAT and OUT to the battery and bypass to GND with a 1uF ceramic capacitor.", 7 CTRL (in) "Single-input interface Input. Drive CTRL with pulses to enable/disable the device, enable/disable VIN-DPM, and select current limits. See the interface section for details on using the CTRL interface.", 8 ~{CHG} (hiz) "Charge status indicator open-drain output. C\H\G\ is pulled low while the device is charging the battery. C\H\G\ goes high impedance when the battery is fully charged.", 9 GND (power) "Ground terminal. Connect to the thermal pad and the ground plane of the circuit.", 10 OUT (power) "System output connection. Connect OUT and BAT together. Bypass the OUT and BAT connection to GND with a 1uF ceramic capacitor.", 11 EP (power) "There is an internal electrical connection between the exposed thermal pad and the GND pin of the device. The thermal pad must be connected to the same potential as the GND pin on the printed circuit board. Do not use the (See Datasheet)"